# Altium footprint library CLS_Library.PcbLib: 23 footprints (part 1 of 2)
Each footprint in its own frame and in the unit in brackets; x right, y up, seen from the top. Pads: shape width x height; smd on the part's side, far side on the other; paste and mask are expansions set on the pad; w line width, h text height; cw(c..) or ccw(c..) is an arc to the next point about the centre after c.
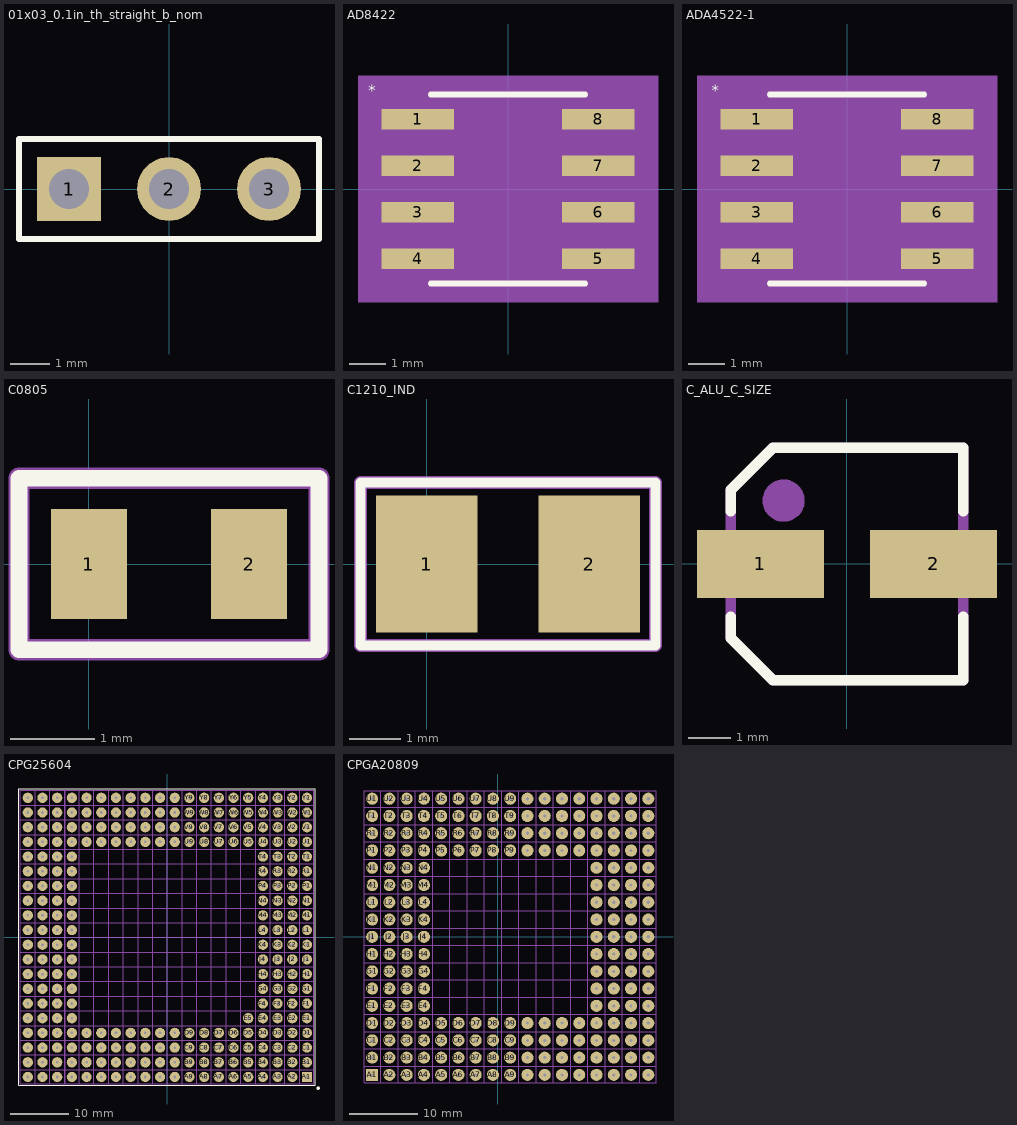
[diagram p0: the footprints below, top view; thin cyan lines are the x and y axes]

## 01x03_0.1in_th_straight_b_nom [mm] "3 positions (1 row, 3 columns), 0.1 Inch pitch, through hole straight header (B Density)"
height 6
pads (3):
  rect 1.62x1.62 hole 1.02: 1(-2.54,0)
  round 1.62 hole 1.02: 2(0,0) 3(2.54,0)
Top Overlay:
  lines w0.15: -3.81,1.25 -3.81,-1.27 3.81,-1.27 3.81,1.25 ; -3.81,1.27 3.81,1.27
Mechanical 13:
  lines w0.15: -3.81,-1.27 -3.81,1.27 3.81,1.27 3.81,-1.27 -3.81,-1.27
  text ".Designator" at -3.5,-0.25 h0.7
Mechanical 15:
  lines w0.05: -3.81,-1.27 -3.81,1.27 3.81,1.27 3.81,-1.27 -3.81,-1.27
3D body "01x03_0.1in_th_straight.stp": height 8.38, standoff -2.54, extent -3.937,-1.27 3.81,1.27

## AD8422 [mil]
pads (8):
  rect 78x22 smd paste+0 mask+0: 1(-97,75) 2(-97,25) 3(-97,-25) 4(-97,-75) 5(97,-75) 6(97,-25) 7(97,25) 8(97,75)
Top Overlay:
  lines w6: -82.76,-101.46 82.76,-101.46 ; -82.76,101.46 82.76,101.46
  text "*" at -150,100 h11.81
Mechanical 5:
  region: 161,-121.46 -161,-121.46 -161,121.46 161,121.46
Mechanical 13:
  lines w0: -12,96.46 ccw(c0,96.46) 12,96.46
  lines w1: -122,-85 -77.76,-85 -77.76,-65 -122,-65 -122,-85 ; -122,-35 -77.76,-35 -77.76,-15 -122,-15 -122,-35 ; -122,15 -77.76,15 -77.76,35 -122,35 -122,15 ; -122,65 -77.76,65 -77.76,85 -122,85 -122,65 ; -77.76,-96.46 -77.76,96.46 77.76,96.46 77.76,-96.46 -77.76,-96.46 ; 77.76,-85 122,-85 122,-65 77.76,-65 77.76,-85 ; 77.76,-35 122,-35 122,-15 77.76,-15 77.76,-35 ; 77.76,15 122,15 122,35 77.76,35 77.76,15 ; 77.76,65 122,65 122,85 77.76,85 77.76,65
  text "*" at -75.26,43.46 h50
Mechanical 15:
  region: -87.76,-96 -146,-96 -146,96 -87.76,96 -87.76,106.46 87.76,106.46 87.76,96 146,96 146,-96 87.76,-96 87.76,-106.46 -87.76,-106.46
  lines w6: -146,-96 -87.76,-96 -87.76,-106.46 87.76,-106.46 87.76,-96 146,-96 146,96 87.76,96 87.76,106.46 -87.76,106.46 -87.76,96 -146,96 -146,-96
3D body: height 10, standoff 0, extent 0,0 10,10
3D body "R_8_ADI.step": height 69.09, standoff 0, extent -122,-96.45 122.01,96.46

## ADA4522-1 [mil]
pads (8):
  rect 78x22 smd paste+0 mask+0: 1(-97,75) 2(-97,25) 3(-97,-25) 4(-97,-75) 5(97,-75) 6(97,-25) 7(97,25) 8(97,75)
Top Overlay:
  lines w6: -82.76,-101.46 82.76,-101.46 ; -82.76,101.46 82.76,101.46
  text "*" at -145,100 h11.81
Mechanical 5:
  region: 161,-121.46 -161,-121.46 -161,121.46 161,121.46
Mechanical 13:
  lines w0: -12,96.46 ccw(c0,96.46) 12,96.46
  lines w1: -122,-85 -77.76,-85 -77.76,-65 -122,-65 -122,-85 ; -122,-35 -77.76,-35 -77.76,-15 -122,-15 -122,-35 ; -122,15 -77.76,15 -77.76,35 -122,35 -122,15 ; -122,65 -77.76,65 -77.76,85 -122,85 -122,65 ; -77.76,-96.46 -77.76,96.46 77.76,96.46 77.76,-96.46 -77.76,-96.46 ; 77.76,-85 122,-85 122,-65 77.76,-65 77.76,-85 ; 77.76,-35 122,-35 122,-15 77.76,-15 77.76,-35 ; 77.76,15 122,15 122,35 77.76,35 77.76,15 ; 77.76,65 122,65 122,85 77.76,85 77.76,65
  text "*" at -75.26,43.46 h50
Mechanical 15:
  region: -87.76,-96 -146,-96 -146,96 -87.76,96 -87.76,106.46 87.76,106.46 87.76,96 146,96 146,-96 87.76,-96 87.76,-106.46 -87.76,-106.46
  lines w6: -146,-96 -87.76,-96 -87.76,-106.46 87.76,-106.46 87.76,-96 146,-96 146,96 87.76,96 87.76,106.46 -87.76,106.46 -87.76,96 -146,96 -146,-96
3D body "R_8_ADI.step": height 69.09, standoff 0, extent -122,-96.45 122.01,96.46
3D body: height 10, standoff 0, extent 0,0 10,10

## C0805 [mm]
pads (2):
  rect 0.9x1.3 smd: 1(0,0) 2(1.9,0)
Top Overlay:
  lines w0.2: -0.828,-1.016 -0.828,1.016 2.728,1.016 2.728,-1.016 -0.828,-1.016
Mechanical 29:
  lines w0.254: -0.828,-1.016 -0.828,1.016 2.728,1.016 2.728,-1.016 -0.828,-1.016
  text ".Designator" at 0.406,-0.279 h0.6
3D body "CAPC2012X95N EIA 0805.step": height 0.96, standoff 0.01, extent -0.05,-0.6 1.95,0.6
3D body "CAPC2012X95N EIA 0805.step": height 1.46, standoff 0.51, extent -0.05,-0.6 1.95,0.6

## C1210_IND [mm]
pads (2):
  rect 2x2.7 smd: 1(0,0) 2(3.2,0)
Top Overlay:
  lines w0.2: -1.3,-1.6 4.5,-1.6 4.5,1.6 -1.3,1.6 -1.3,-1.6
Mechanical 29:
  lines w0.254: -1.3,-1.6 -1.3,1.6 4.5,1.6 4.5,-1.6 -1.3,-1.6
  text ".Designator" at -0.5,-0.6 h1
3D body: height 2.7, standoff 0, extent 3,-1.25 3.3,1.25
3D body: height 2.7, standoff 0, extent 0,-1.25 0.3,1.25
3D body: height 2.7, standoff 0, extent 0.3,-1.25 3,1.25

## C_ALU_C_SIZE [mm]
pads (2):
  rect 3x1.6 smd: 1(-2.05,0) 2(2.05,0)
Top Overlay:
  lines w0.254: -2.75,-1.25 -2.75,-1.75 -1.75,-2.75 2.75,-2.75 2.75,-1.25 ; -2.75,1.25 -2.75,1.75 -1.75,2.75 2.75,2.75 2.75,1.25
Mechanical 29:
  circle w0.5: c-1.5,1.5 r0.25
  lines w0.254: -2.75,-1.75 -1.75,-2.75 2.75,-2.75 2.75,2.75 -1.75,2.75 -2.75,1.75 -2.75,-1.75
  text ".Designator" at -1.25,-0.75 h1.3
3D body "User Library-capacitor size C.step": height 5.41, standoff -0.01, extent -2.95,-2.65 2.95,2.65

## CPG25604 [mil] "256 Pinout (1 align pin)"
height 79.92
pads (257):
  rect 70x70 hole 18: A1(950,-950)
  round 70 hole 18: A2(850,-950) A3(750,-950) A4(650,-950) A5(550,-950) A6(450,-950) A7(350,-950) A8(250,-950) A9(150,-950) A10(50,-950) A11(-50,-950) A12(-150,-950) A13(-250,-950) A14(-350,-950) A15(-450,-950) A16(-550,-950) A17(-650,-950) A18(-750,-950) A19(-850,-950) A20(-950,-950) B1(950,-850) B2(850,-850) B3(750,-850) B4(650,-850) B5(550,-850) B6(450,-850) B7(350,-850) B8(250,-850) B9(150,-850) B10(50,-850) B11(-50,-850) B12(-150,-850) B13(-250,-850) B14(-350,-850) B15(-450,-850) B16(-550,-850) B17(-650,-850) B18(-750,-850) B19(-850,-850) B20(-950,-850) C1(950,-750) C2(850,-750) C3(750,-750) C4(650,-750) C5(550,-750) C6(450,-750) C7(350,-750) C8(250,-750) C9(150,-750) C10(50,-750) C11(-50,-750) C12(-150,-750) C13(-250,-750) C14(-350,-750) C15(-450,-750) C16(-550,-750) C17(-650,-750) C18(-750,-750) C19(-850,-750) C20(-950,-750) D1(950,-650) D2(850,-650) D3(750,-650) D4(650,-650) D5(550,-650) D6(450,-650) D7(350,-650) D8(250,-650) D9(150,-650) D10(50,-650) D11(-50,-650) D12(-150,-650) D13(-250,-650) D14(-350,-650) D15(-450,-650) D16(-550,-650) D17(-650,-650) D18(-750,-650) D19(-850,-650) D20(-950,-650) E1(950,-550) E2(850,-550) E3(750,-550) E4(650,-550) E5(550,-550) E17(-650,-550) E18(-750,-550) E19(-850,-550) E20(-950,-550) F1(950,-450) F2(850,-450) F3(750,-450) F4(650,-450) F17(-650,-450) F18(-750,-450) F19(-850,-450) F20(-950,-450) G1(950,-350) G2(850,-350) G3(750,-350) G4(650,-350) G17(-650,-350) G18(-750,-350) G19(-850,-350) G20(-950,-350) H1(950,-250) H2(850,-250) H3(750,-250) H4(650,-250) H17(-650,-250) H18(-750,-250) H19(-850,-250) H20(-950,-250) J1(950,-150) J2(850,-150) J3(750,-150) J4(650,-150) J17(-650,-150) J18(-750,-150) J19(-850,-150) J20(-950,-150) K1(950,-50) K2(850,-50) K3(750,-50) K4(650,-50) K17(-650,-50) K18(-750,-50) K19(-850,-50) K20(-950,-50) L1(950,50) L2(850,50) L3(750,50) L4(650,50) L17(-650,50) L18(-750,50) L19(-850,50) L20(-950,50) M1(950,150) M2(850,150) M3(750,150) M4(650,150) M17(-650,150) M18(-750,150) M19(-850,150) M20(-950,150) N1(950,250) N2(850,250) N3(750,250) N4(650,250) N17(-650,250) N18(-750,250) N19(-850,250) N20(-950,250) P1(950,350) P2(850,350) P3(750,350) P4(650,350) P17(-650,350) P18(-750,350) P19(-850,350) P20(-950,350) R1(950,450) R2(850,450) R3(750,450) R4(650,450) R17(-650,450) R18(-750,450) R19(-850,450) R20(-950,450) T1(950,550) T2(850,550) T3(750,550) T4(650,550) T17(-650,550) T18(-750,550) T19(-850,550) T20(-950,550) U1(950,650) U2(850,650) U3(750,650) U4(650,650) U5(550,650) U6(450,650) U7(350,650) U8(250,650) U9(150,650) U10(50,650) U11(-50,650) U12(-150,650) U13(-250,650) U14(-350,650) U15(-450,650) U16(-550,650) U17(-650,650) U18(-750,650) U19(-850,650) U20(-950,650) V1(950,750) V2(850,750) V3(750,750) V4(650,750) V5(550,750) V6(450,750) V7(350,750) V8(250,750) V9(150,750) V10(50,750) V11(-50,750) V12(-150,750) V13(-250,750) V14(-350,750) V15(-450,750) V16(-550,750) V17(-650,750) V18(-750,750) V19(-850,750) V20(-950,750) W1(950,850) W2(850,850) W3(750,850) W4(650,850) W5(550,850) W6(450,850) W7(350,850) W8(250,850) W9(150,850) W10(50,850) W11(-50,850) W12(-150,850) W13(-250,850) W14(-350,850) W15(-450,850) W16(-550,850) W17(-650,850) W18(-750,850) W19(-850,850) W20(-950,850) Y1(950,950) Y2(850,950) Y3(750,950) Y4(650,950) Y5(550,950) Y6(450,950) Y7(350,950) Y8(250,950) Y9(150,950) Y10(50,950) Y11(-50,950) Y12(-150,950) Y13(-250,950) Y14(-350,950) Y15(-450,950) Y16(-550,950) Y17(-650,950) Y18(-750,950) Y19(-850,950) Y20(-950,950)
Top Overlay:
  circle w11.81: c1025.98,-1025.98 r5.91
  lines w5.91: -1010,-1006.3 1006.3,-1006.3 1006.3,1010 -1010,1010 -1010,-1006.3
Mechanical 13:
  lines w5.91: -1000,-995 -1000,1001.46 996.46,1001.46 996.46,-995 ; -1000,-900 996.46,-900 ; -1000,-800 996.46,-800 ; -1000,-700 996.46,-700 ; -1000,-600 996.46,-600 ; -1000,-500 996.46,-500 ; -1000,-400 996.46,-400 ; -1000,-300 996.46,-300 ; -1000,-200 996.46,-200 ; -1000,-100 996.46,-100 ; -1000,0 996.46,0 ; -1000,100 996.46,100 ; -1000,200 996.46,200 ; -1000,300 996.46,300 ; -1000,400 996.46,400 ; -1000,500 996.46,500 ; -1000,600 996.46,600 ; -1000,700 996.46,700 ; -1000,800 996.46,800 ; -1000,900 996.46,900 ; -1000,1000 -1000,-996.46 996.46,-996.46 996.46,1000 ; -900,-995 -900,1001.46 ; -800,-995 -800,1001.46 ; -700,-995 -700,1001.46 ; -600,-995 -600,1001.46 ; -500,-995 -500,1001.46 ; -400,-995 -400,1001.46 ; -300,-995 -300,1001.46 ; -200,-995 -200,1001.46 ; -100,-995 -100,1001.46 ; 0,-995 0,1001.46 ; 100,-995 100,1001.46 ; 200,-995 200,1001.46 ; 300,-995 300,1001.46 ; 400,-995 400,1001.46 ; 500,-995 500,1001.46 ; 600,-995 600,1001.46 ; 700,-995 700,1001.46 ; 800,-995 800,1001.46 ; 900,-995 900,1001.46
  text "20" at -930.32,-1086.16 h39.37
  text "19" at -830.32,-1086.16 h39.37
  text "18" at -730.32,-1086.16 h39.37
  text "Y" at 1025.51,933.12 h39.37
  text "W" at 1025.51,833.12 h39.37
  text "V" at 1025.51,733.12 h39.37
  text ".Designator" at -180,30 h39.37
  text "1" at 970,-1050 h39.37
  text "2" at 869.68,-1059.43 h39.37
  text "3" at 769.68,-1059.43 h39.37
  text "4" at 669.68,-1059.43 h39.37
  text "5" at 569.68,-1059.43 h39.37
  text "6" at 469.68,-1059.43 h39.37
  text "7" at 369.68,-1059.43 h39.37
  text "8" at 269.68,-1059.43 h39.37
  text "9" at 169.68,-1059.43 h39.37
  text "10" at 69.68,-1086.16 h39.37
  text "11" at -30,-1080 h39.37
  text "12" at -130.32,-1086.16 h39.37
  text "13" at -230.32,-1086.16 h39.37
  text "14" at -330.32,-1086.16 h39.37
  text "15" at -430.32,-1086.16 h39.37
  text "16" at -530.32,-1086.16 h39.37
  text "17" at -630.32,-1086.16 h39.37
  text "A" at 1025.51,-966.88 h39.37
  text "B" at 1025.51,-866.88 h39.37
  text "C" at 1025.51,-766.88 h39.37
  text "D" at 1025.51,-666.88 h39.37
  text "E" at 1025.51,-566.88 h39.37
  text "F" at 1025.51,-466.88 h39.37
  text "G" at 1025.51,-366.88 h39.37
  text "H" at 1025.51,-266.88 h39.37
  text "J" at 1025.51,-173.44 h39.37
  text "K" at 1025.51,-66.88 h39.37
  text "L" at 1025.51,33.12 h39.37
  text "M" at 1025.51,133.12 h39.37
  text "N" at 1025.51,233.12 h39.37
  text "P" at 1025.51,333.12 h39.37
  text "R" at 1025.51,433.12 h39.37
  text "T" at 1025.51,533.12 h39.37
  text "U" at 1025.51,633.12 h39.37
Mechanical 15:
  lines w1.97: -696.46,-995 -696.46,1001.46 ; -1000,-996.46 996.46,-996.46 996.46,1002 -1000,1002 -1000,-996.46
3D body: height 120.08, standoff 40.16, extent -1002,-996.46 996.46,1002

## CPGA20809 [mil] "208 Pinout"
height 79.92
pads (208):
  rect 70x70 hole 18: A1(-728.15,-800)
  round 70 hole 18: A2(-628.15,-800) A3(-528.15,-800) A4(-428.15,-800) A5(-328.15,-800) A6(-228.15,-800) A7(-128.15,-800) A8(-28.15,-800) A9(71.85,-800) A10(171.85,-800) A11(271.85,-800) A12(371.85,-800) A13(471.85,-800) A14(571.85,-800) A15(671.85,-800) A16(771.85,-800) A17(871.85,-800) B1(-728.15,-700) B2(-628.15,-700) B3(-528.15,-700) B4(-428.15,-700) B5(-328.15,-700) B6(-228.15,-700) B7(-128.15,-700) B8(-28.15,-700) B9(71.85,-700) B10(171.85,-700) B11(271.85,-700) B12(371.85,-700) B13(471.85,-700) B14(571.85,-700) B15(671.85,-700) B16(771.85,-700) B17(871.85,-700) C1(-728.15,-600) C2(-628.15,-600) C3(-528.15,-600) C4(-428.15,-600) C5(-328.15,-600) C6(-228.15,-600) C7(-128.15,-600) C8(-28.15,-600) C9(71.85,-600) C10(171.85,-600) C11(271.85,-600) C12(371.85,-600) C13(471.85,-600) C14(571.85,-600) C15(671.85,-600) C16(771.85,-600) C17(871.85,-600) D1(-728.15,-500) D2(-628.15,-500) D3(-528.15,-500) D4(-428.15,-500) D5(-328.15,-500) D6(-228.15,-500) D7(-128.15,-500) D8(-28.15,-500) D9(71.85,-500) D10(171.85,-500) D11(271.85,-500) D12(371.85,-500) D13(471.85,-500) D14(571.85,-500) D15(671.85,-500) D16(771.85,-500) D17(871.85,-500) E1(-728.15,-400) E2(-628.15,-400) E3(-528.15,-400) E4(-428.15,-400) E14(571.85,-400) E15(671.85,-400) E16(771.85,-400) E17(871.85,-400) F1(-728.15,-300) F2(-628.15,-300) F3(-528.15,-300) F4(-428.15,-300) F14(571.85,-300) F15(671.85,-300) F16(771.85,-300) F17(871.85,-300) G1(-728.15,-200) G2(-628.15,-200) G3(-528.15,-200) G4(-428.15,-200) G14(571.85,-200) G15(671.85,-200) G16(771.85,-200) G17(871.85,-200) H1(-728.15,-100) H2(-628.15,-100) H3(-528.15,-100) H4(-428.15,-100) H14(571.85,-100) H15(671.85,-100) H16(771.85,-100) H17(871.85,-100) J1(-728.15,0) J2(-628.15,0) J3(-528.15,0) J4(-428.15,0) J14(571.85,0) J15(671.85,0) J16(771.85,0) J17(871.85,0) K1(-728.15,100) K2(-628.15,100) K3(-528.15,100) K4(-428.15,100) K14(571.85,100) K15(671.85,100) K16(771.85,100) K17(871.85,100) L1(-728.15,200) L2(-628.15,200) L3(-528.15,200) L4(-428.15,200) L14(571.85,200) L15(671.85,200) L16(771.85,200) L17(871.85,200) M1(-728.15,300) M2(-628.15,300) M3(-528.15,300) M4(-428.15,300) M14(571.85,300) M15(671.85,300) M16(771.85,300) M17(871.85,300) N1(-728.15,400) N2(-628.15,400) N3(-528.15,400) N4(-428.15,400) N14(571.85,400) N15(671.85,400) N16(771.85,400) N17(871.85,400) P1(-728.15,500) P2(-628.15,500) P3(-528.15,500) P4(-428.15,500) P5(-328.15,500) P6(-228.15,500) P7(-128.15,500) P8(-28.15,500) P9(71.85,500) P10(171.85,500) P11(271.85,500) P12(371.85,500) P13(471.85,500) P14(571.85,500) P15(671.85,500) P16(771.85,500) P17(871.85,500) R1(-728.15,600) R2(-628.15,600) R3(-528.15,600) R4(-428.15,600) R5(-328.15,600) R6(-228.15,600) R7(-128.15,600) R8(-28.15,600) R9(71.85,600) R10(171.85,600) R11(271.85,600) R12(371.85,600) R13(471.85,600) R14(571.85,600) R15(671.85,600) R16(771.85,600) R17(871.85,600) T1(-728.15,700) T2(-628.15,700) T3(-528.15,700) T4(-428.15,700) T5(-328.15,700) T6(-228.15,700) T7(-128.15,700) T8(-28.15,700) T9(71.85,700) T10(171.85,700) T11(271.85,700) T12(371.85,700) T13(471.85,700) T14(571.85,700) T15(671.85,700) T16(771.85,700) T17(871.85,700) U1(-728.15,800) U2(-628.15,800) U3(-528.15,800) U4(-428.15,800) U5(-328.15,800) U6(-228.15,800) U7(-128.15,800) U8(-28.15,800) U9(71.85,800) U10(171.85,800) U11(271.85,800) U12(371.85,800) U13(471.85,800) U14(571.85,800) U15(671.85,800) U16(771.85,800) U17(871.85,800)
Bottom Overlay:
  circle w11.81: c-804.13,-875.98 r5.91
  lines w5.91: -784.45,-856.3 928.15,-856.3 928.15,856.3 -784.45,856.3 -784.45,-856.3
Mechanical 13:
  lines w5.91: -774.61,-750 918.31,-750 ; -774.61,-650 918.31,-650 ; -774.61,-550 918.31,-550 ; -774.61,-450 918.31,-450 ; -774.61,-350 918.31,-350 ; -774.61,-250 918.31,-250 ; -774.61,-150 918.31,-150 ; -774.61,-50 918.31,-50 ; -774.61,50 918.31,50 ; -774.61,150 918.31,150 ; -774.61,250 918.31,250 ; -774.61,350 918.31,350 ; -774.61,450 918.31,450 ; -774.61,550 918.31,550 ; -774.61,650 918.31,650 ; -774.61,750 918.31,750 ; -678.15,-846.46 -678.15,846.46 ; -578.15,-846.46 -578.15,846.46 ; -478.15,-846.46 -478.15,846.46 ; -378.15,-846.46 -378.15,846.46 ; -278.15,-846.46 -278.15,846.46 ; -178.15,-846.46 -178.15,846.46 ; -78.15,-846.46 -78.15,846.46 ; 21.85,-846.46 21.85,846.46 ; 121.85,-846.46 121.85,846.46 ; 221.85,-846.46 221.85,846.46 ; 321.85,-846.46 321.85,846.46 ; 421.85,-846.46 421.85,846.46 ; 521.85,-846.46 521.85,846.46 ; 621.85,-846.46 621.85,846.46 ; 721.85,-846.46 721.85,846.46 ; 821.85,-846.46 821.85,846.46 ; -774.61,-846.46 918.31,-846.46 918.31,846.46 -774.61,846.46 -774.61,-846.46
  text ".Designator" at 268.57,0 h39.37
  text "10" at 144.97,-931.12 h39.37
  text "9" at 44.97,-904.39 h39.37
  text "13" at 444.97,-931.12 h39.37
  text "14" at 544.97,-931.12 h39.37
  text "1" at -755.36,-894.96 h39.37
  text "2" at -655.03,-904.39 h39.37
  text "3" at -555.03,-904.39 h39.37
  text "4" at -455.03,-904.39 h39.37
  text "5" at -355.03,-904.39 h39.37
  text "6" at -255.03,-904.39 h39.37
  text "7" at -155.03,-904.39 h39.37
  text "8" at -55.03,-904.39 h39.37
  text "11" at 244.64,-924.96 h39.37
  text "17" at 844.97,-931.12 h39.37
  text "16" at 744.97,-931.12 h39.37
  text "15" at 644.97,-931.12 h39.37
  text "12" at 344.97,-931.12 h39.37
  text "U" at -824.49,773.12 h39.37
  text "T" at -824.49,673.12 h39.37
  text "R" at -824.49,573.12 h39.37
  text "P" at -824.49,473.12 h39.37
  text "N" at -824.49,373.12 h39.37
  text "M" at -824.49,273.12 h39.37
  text "L" at -824.49,173.12 h39.37
  text "K" at -824.49,73.12 h39.37
  text "J" at -824.49,-33.44 h39.37
  text "H" at -824.49,-126.88 h39.37
  text "G" at -824.49,-226.88 h39.37
  text "F" at -824.49,-326.88 h39.37
  text "E" at -824.49,-426.88 h39.37
  text "D" at -824.49,-526.88 h39.37
  text "C" at -824.49,-626.88 h39.37
  text "B" at -824.49,-726.88 h39.37
  text "A" at -824.49,-826.88 h39.37
Mechanical 15:
  lines w1.97: -774.61,-846.46 918.31,-846.46 918.31,846.46 -774.61,846.46 -774.61,-846.46
3D body: height 120.08, standoff 40.16, extent -774.61,-846.46 918.31,846.46